# EAGLE library part PCF8574APWR (library NervousSys_V1)
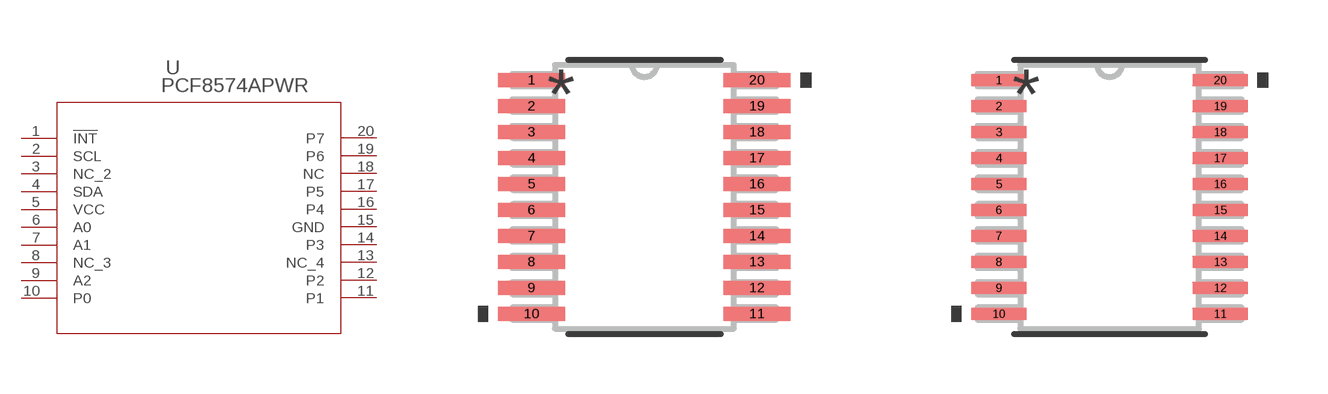
[diagram p0: symbol with the pads of PW20; footprints PW20, PW20-L]

Designator prefix U

## PCF8574APWR (MANUFACTURER_PART_NUMBER: PCF8574APWR; VENDOR: Texas Instruments)  [PW20]
1  !INT  out
2  SCL  pas
3  NC_2  pas
4  SDA  pas
5  VCC  pwr
6  A0  in
7  A1  in
8  NC_3  pas
9  A2  in
10  P0
11  P1
12  P2
13  NC_4  pas
14  P3
15  GND  pwr
16  P4
17  P5
18  NC  pas
19  P6
20  P7

## PCF8574APWRPW20-L (MANUFACTURER_PART_NUMBER: PCF8574APWR; VENDOR: Texas Instruments)  [PW20-L]
Pads as for PW20

## PCF8574APWRPW20-M (MANUFACTURER_PART_NUMBER: PCF8574APWR; VENDOR: Texas Instruments)  [PW20-M]
Pads as for PW20

## Footprint PW20 (pad centres in mm)
smd 1.676 x 0.356: 1 -2.819,2.925; 2 -2.819,2.275; 3 -2.819,1.625; 4 -2.819,0.975; 5 -2.819,0.325; 6 -2.819,-0.325; 7 -2.819,-0.975; 8 -2.819,-1.625; 9 -2.819,-2.275; 10 -2.819,-2.925; 11 2.819,-2.925; 12 2.819,-2.275; 13 2.819,-1.625; 14 2.819,-0.975; 15 2.819,-0.325; 16 2.819,0.325; 17 2.819,0.975; 18 2.819,1.625; 19 2.819,2.275; 20 2.819,2.925

## Footprint PW20-L (pad centres in mm)
smd 1.372 x 0.305: 1 -2.769,2.925; 2 -2.769,2.275; 3 -2.769,1.625; 4 -2.769,0.975; 5 -2.769,0.325; 6 -2.769,-0.325; 7 -2.769,-0.975; 8 -2.769,-1.625; 9 -2.769,-2.275; 10 -2.769,-2.925; 11 2.769,-2.925; 12 2.769,-2.275; 13 2.769,-1.625; 14 2.769,-0.975; 15 2.769,-0.325; 16 2.769,0.325; 17 2.769,0.975; 18 2.769,1.625; 19 2.769,2.275; 20 2.769,2.925

## Footprint PW20-M (pad centres in mm)
smd 1.981 x 0.406: 1 -2.87,2.925; 2 -2.87,2.275; 3 -2.87,1.625; 4 -2.87,0.975; 5 -2.87,0.325; 6 -2.87,-0.325; 7 -2.87,-0.975; 8 -2.87,-1.625; 9 -2.87,-2.275; 10 -2.87,-2.925; 11 2.87,-2.925; 12 2.87,-2.275; 13 2.87,-1.625; 14 2.87,-0.975; 15 2.87,-0.325; 16 2.87,0.325; 17 2.87,0.975; 18 2.87,1.625; 19 2.87,2.275; 20 2.87,2.925